# Altium footprint library STM32主处理板.PcbLib: 29 footprints (part 1 of 2)
Each footprint in its own frame and in the unit in brackets; x right, y up, seen from the top. Pads: shape width x height; smd on the part's side, far side on the other; paste and mask are expansions set on the pad; w line width, h text height; cw(c..) or ccw(c..) is an arc to the next point about the centre after c.
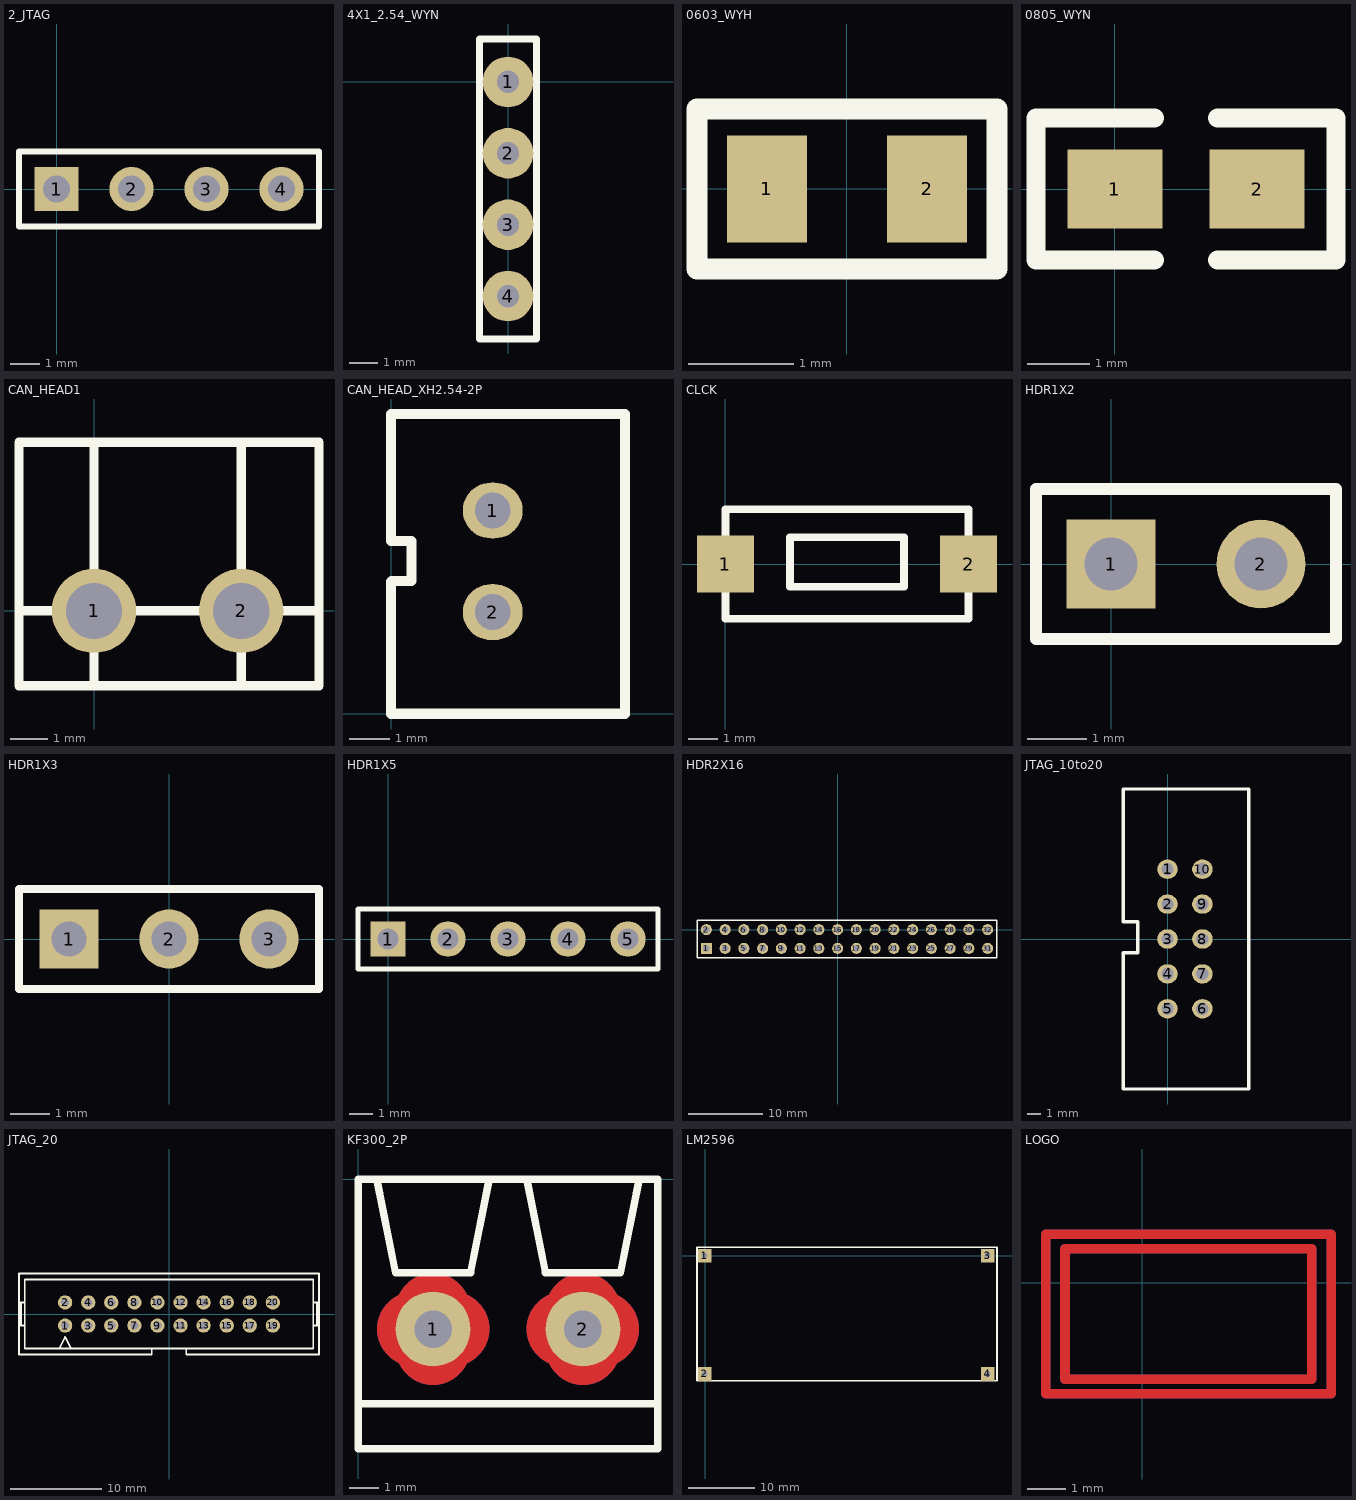
[diagram p0: the footprints below, top view; thin cyan lines are the x and y axes]

## 2_JTAG [mm]
pads (4):
  rect 1.5x1.5 hole 0.9: 1(0,0)
  round 1.5 hole 0.9: 2(2.54,0) 3(5.08,0) 4(7.62,0)
Top Overlay:
  lines w0.2: -1.27,-1.27 -1.27,1.27 8.89,1.27 8.89,-1.27 -1.27,-1.27

## 4X1_2.54_WYN [mm]
pads (4):
  round 1.8 / inner round 0 / far side round 0 hole 0.8: 1(0,0) 2(0,-2.54) 3(0,-5.08) 4(0,-7.62)
Top Overlay:
  lines w0.254: -1.016,-9.144 -1.016,-8.636 -1.016,0.508 -1.016,1.524 1.016,1.524 1.016,-9.144 -1.016,-9.144

## 0603_WYH [mil]
pads (2):
  rect 30x40 smd: 1(-30,0) 2(30,0)
Top Overlay:
  lines w7.87: 56.14,-30.04 56.14,30 -56.14,30 -56.14,-30 56.14,-30

## 0805_WYN [mil]
pads (2):
  rect 60x50 smd: 1(0,0) 2(90,0)
Top Overlay:
  lines w12: 25,-45 -50,-45 -50,45 25,45 ; 65,-45 140,-45 140,45 65,45

## CAN_HEAD1 [mil]
pads (2):
  round 90 hole 60: 1(0,0) 2(157,0)
Top Overlay:
  lines w10: 160,-80 240,-80 ; 240,0 157,0 ; -80,-80 -80,0 0,0 ; -80,-80 0,-80 ; -80,-80 0,-80 ; -80,-80 -80,180 0,180 ; 0,-80 0,0 ; 0,-80 157,-80 ; 0,0 0,150 0,180 ; 0,0 157,0 ; 0,180 157,180 ; 157,-80 157,0 ; 157,-80 240,-80 ; 157,-80 157,0 ; 157,0 157,180 ; 157,180 240,180 240,-80

## CAN_HEAD_XH2.54-2P [mil]
pads (2):
  oval 59x55 hole 35.4: 1(100,200) 2(100,100)
Top Overlay:
  lines w10: 228.35,0 0,0 0,130 0.63,130.63 20,130.63 20,170 0,170 0,295 230,295 230,-0.28

## CLCK [mil]
pads (2):
  rect 75x75 smd: 1(0,0) 2(320,0)
Top Overlay:
  lines w10: 0,0 0,72 ; 0,72 0,-72 320,-72 320,72 240,72 80,72 0,72 ; 85,-30 235,-30 235,35 85,35 85,-30

## HDR1X2 [mm]
pads (2):
  rect 1.5x1.5 hole 0.9: 1(0,0)
  round 1.5 hole 0.9: 2(2.54,0)
Top Overlay:
  lines w0.2: -1.27,-1.27 3.81,-1.27 3.81,1.27 -1.27,1.27 -1.27,-1.27

## HDR1X3 [mm] "Connector; Header; 3 Position"
pads (3):
  rect 1.5x1.5 hole 0.9: 1(-2.54,0)
  round 1.5 hole 0.9: 2(0,0) 3(2.54,0)
Top Overlay:
  lines w0.2: -3.81,-1.27 -3.81,1.27 3.81,1.27 3.81,-1.27 -3.81,-1.27

## HDR1X5 [mm]
pads (5):
  rect 1.5x1.5 hole 0.9: 1(0,0)
  round 1.5 hole 0.9: 2(2.54,0) 3(5.08,0) 4(7.62,0) 5(10.16,0)
Top Overlay:
  lines w0.2: -1.27,-1.27 11.43,-1.27 11.43,1.27 -1.27,1.27 -1.27,-1.27

## HDR2X16 [mm]
height 1.1
pads (32):
  rect 1.5x1.5 hole 0.9: 1(-17.78,-2.54)
  round 1.5 hole 0.9: 2(-17.78,0) 3(-15.24,-2.54) 4(-15.24,0) 5(-12.7,-2.54) 6(-12.7,0) 7(-10.16,-2.54) 8(-10.16,0) 9(-7.62,-2.54) 10(-7.62,0) 11(-5.08,-2.54) 12(-5.08,0) 13(-2.54,-2.54) 14(-2.54,0) 15(0,-2.54) 16(0,0) 17(2.54,-2.54) 18(2.54,0) 19(5.08,-2.54) 20(5.08,0) 21(7.62,-2.54) 22(7.62,0) 23(10.16,-2.54) 24(10.16,0) 25(12.7,-2.54) 26(12.7,0) 27(15.24,-2.54) 28(15.24,0) 29(17.78,-2.54) 30(17.78,0) 31(20.32,-2.54) 32(20.32,0)
Top Overlay:
  lines w0.2: -19.05,-3.81 -19.05,1.27 21.59,1.27 21.59,-3.81 -19.05,-3.81

## JTAG_10to20 [mil]
pads (10):
  oval 59x55 hole 35.4: 1(0,200) 2(0,100) 3(0,0) 4(0,-100) 5(0,-200) 6(100,-200) 7(100,-100) 8(100,0) 9(100,100) 10(100,200)
Top Overlay:
  lines w10: -127,-40 -127,-430 233,-430 233,430 190,430 -80,430 -127,430 -127,50 ; -126,-40 -96,-40 -86,-40 -86,0 -86,50 -96,50 -126,50 ; -80,-430 190,-430

## JTAG_20 [mil]
pads (20):
  round 62 hole 35: 1(-450,-50) 2(-450,50) 3(-350,-50) 4(-350,50) 5(-250,-50) 6(-250,50) 7(-150,-50) 8(-150,50) 9(-50,-50) 10(-50,50) 11(50,-50) 12(50,50) 13(150,-50) 14(150,50) 15(250,-50) 16(250,50) 17(350,-50) 18(350,50) 19(450,-50) 20(450,50)
Top Overlay:
  lines w8: -650,-50 -625,-50 ; -650,50 -625,50 ; -641.67,-50 -641.67,50 ; -475,-150 -450,-100 -425,-150 ; -339.57,-175 -75,-175 -75,-150 ; -325,-175 -650,-175 -650,175 650,175 650,-175 325,-175 75,-175 75,-150 ; 625,-50 650,-50 ; 625,50 650,50 ; 641.67,-50 641.67,50 ; -75,-150 -625,-150 -625,150 625,150 625,-150 75,-150 ; -75,-150 75,-150

## KF300_2P [mm]
pads (2):
  round 2.54 hole 1.27: 1(2.54,-5.08) 2(7.62,-5.08)
Top Layer:
  lines w2.54: 1.905,-5.08 2.54,-5.08 ; 2.54,-5.715 2.54,-5.08 ; 2.54,-4.445 2.54,-5.08 ; 3.175,-5.08 2.54,-5.08 ; 6.985,-5.08 7.62,-5.08 ; 7.62,-5.715 7.62,-5.08 ; 7.62,-4.445 7.62,-5.08 ; 8.255,-5.08 7.62,-5.08
Bottom Layer:
  lines w2.54: 1.905,-5.08 2.54,-5.08 ; 2.54,-5.715 2.54,-5.08 ; 2.54,-4.445 2.54,-5.08 ; 3.175,-5.08 2.54,-5.08 ; 6.985,-5.08 7.62,-5.08 ; 7.62,-5.715 7.62,-5.08 ; 7.62,-4.445 7.62,-5.08 ; 8.255,-5.08 7.62,-5.08
Top Overlay:
  lines w0.254: 0,-7.62 9.525,-7.62 10.16,-7.62 ; 0.635,0 1.27,-3.175 2.54,-3.175 3.81,-3.175 4.445,0 ; 5.715,0 6.35,-3.175 7.62,-3.175 8.89,-3.175 9.525,0 ; 0,-9.144 0,0 10.16,0 10.16,-9.144 0,-9.144
Bottom Solder:
  lines w2.54: 1.905,-5.08 2.54,-5.08 ; 2.54,-5.715 2.54,-5.08 ; 2.54,-4.445 2.54,-5.08 ; 3.175,-5.08 2.54,-5.08 ; 6.985,-5.08 7.62,-5.08 ; 7.62,-5.715 7.62,-5.08 ; 7.62,-4.445 7.62,-5.08 ; 8.255,-5.08 7.62,-5.08

## LM2596 [mil]
pads (4):
  rect 80x80 hole 35: 1(-5,0) 2(-5,-700) 3(1670,0) 4(1670,-700)
Top Overlay:
  lines w10: -50,-740 -50,50 1725,50 1725,-740 -50,-740

## LOGO [mm]
Top Layer:
  lines w0.254: -2.54,-2.921 4.953,-2.921 4.953,1.27 -2.54,1.27 -2.54,1.016 -2.54,-2.921 ; -2.032,-2.54 4.445,-2.54 4.445,0.889 -2.032,0.889 -2.032,-2.54
  text "DIPAN" at -1.27,-1.905 h0.76
  text "N W P U" at -1.27,-0.381 h0.76
Bottom Layer:
  lines w0.254: -2.54,-2.921 4.953,-2.921 4.953,1.27 -2.54,1.27 -2.54,-2.921 ; -2.032,-2.54 4.445,-2.54 4.445,0.889 -2.032,0.889 -2.032,-2.54
  text "DIPAN" at -1.27,-1.905 h0.76
  text "N W P U" at -1.27,-0.381 h0.76
Top Solder:
  rectangle: -2.794,-3.048 5.08,1.397
Bottom Solder:
  rectangle: -2.794,-3.048 5.08,1.397